# EAGLE library part ADS1231 (library capstone_polly)
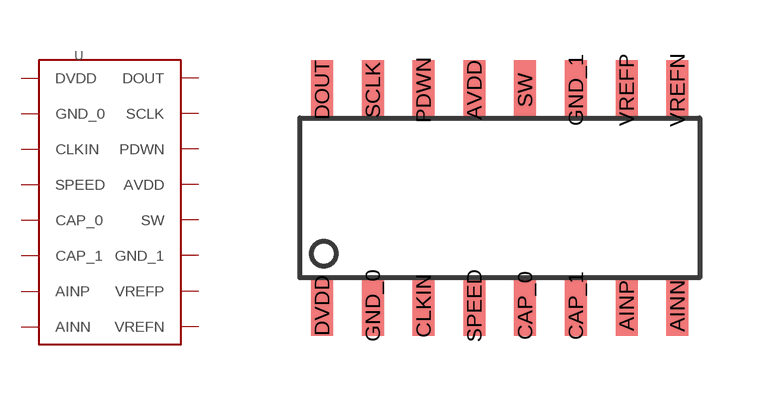
[diagram p1: symbol with the pads of ADS1231; footprint ADS1231]

Designator prefix -

## ADS1231  [ADS1231]
AINN  AINN
AINP  AINP
AVDD  AVDD
CAP_0  CAP_0
CAP_1  CAP_1
CLKIN  CLKIN
DOUT  DOUT
DVDD  DVDD
GND_0  GND_0
GND_1  GND_1
PDWN  PDWN
SCLK  SCLK
SPEED  SPEED
SW  SW
VREFN  VREFN
VREFP  VREFP

## Footprint ADS1231 (pad centres in mm)
smd 0.55 x 1.5: AINN 4.445,-2.7; AINP 3.175,-2.7; AVDD -0.635,2.7; CAP_0 0.635,-2.7; CAP_1 1.905,-2.7; CLKIN -1.905,-2.7; DOUT -4.445,2.7; DVDD -4.445,-2.7; GND_0 -3.175,-2.7; GND_1 1.905,2.7; PDWN -1.905,2.7; SCLK -3.175,2.7; SPEED -0.635,-2.7; SW 0.635,2.7; VREFN 4.445,2.7; VREFP 3.175,2.7